# Altium footprint library PcbLib1.PcbLib: 29 footprints (part 1 of 2)
Each footprint in its own frame and in the unit in brackets; x right, y up, seen from the top. Pads: shape width x height; smd on the part's side, far side on the other; paste and mask are expansions set on the pad; w line width, h text height; cw(c..) or ccw(c..) is an arc to the next point about the centre after c.
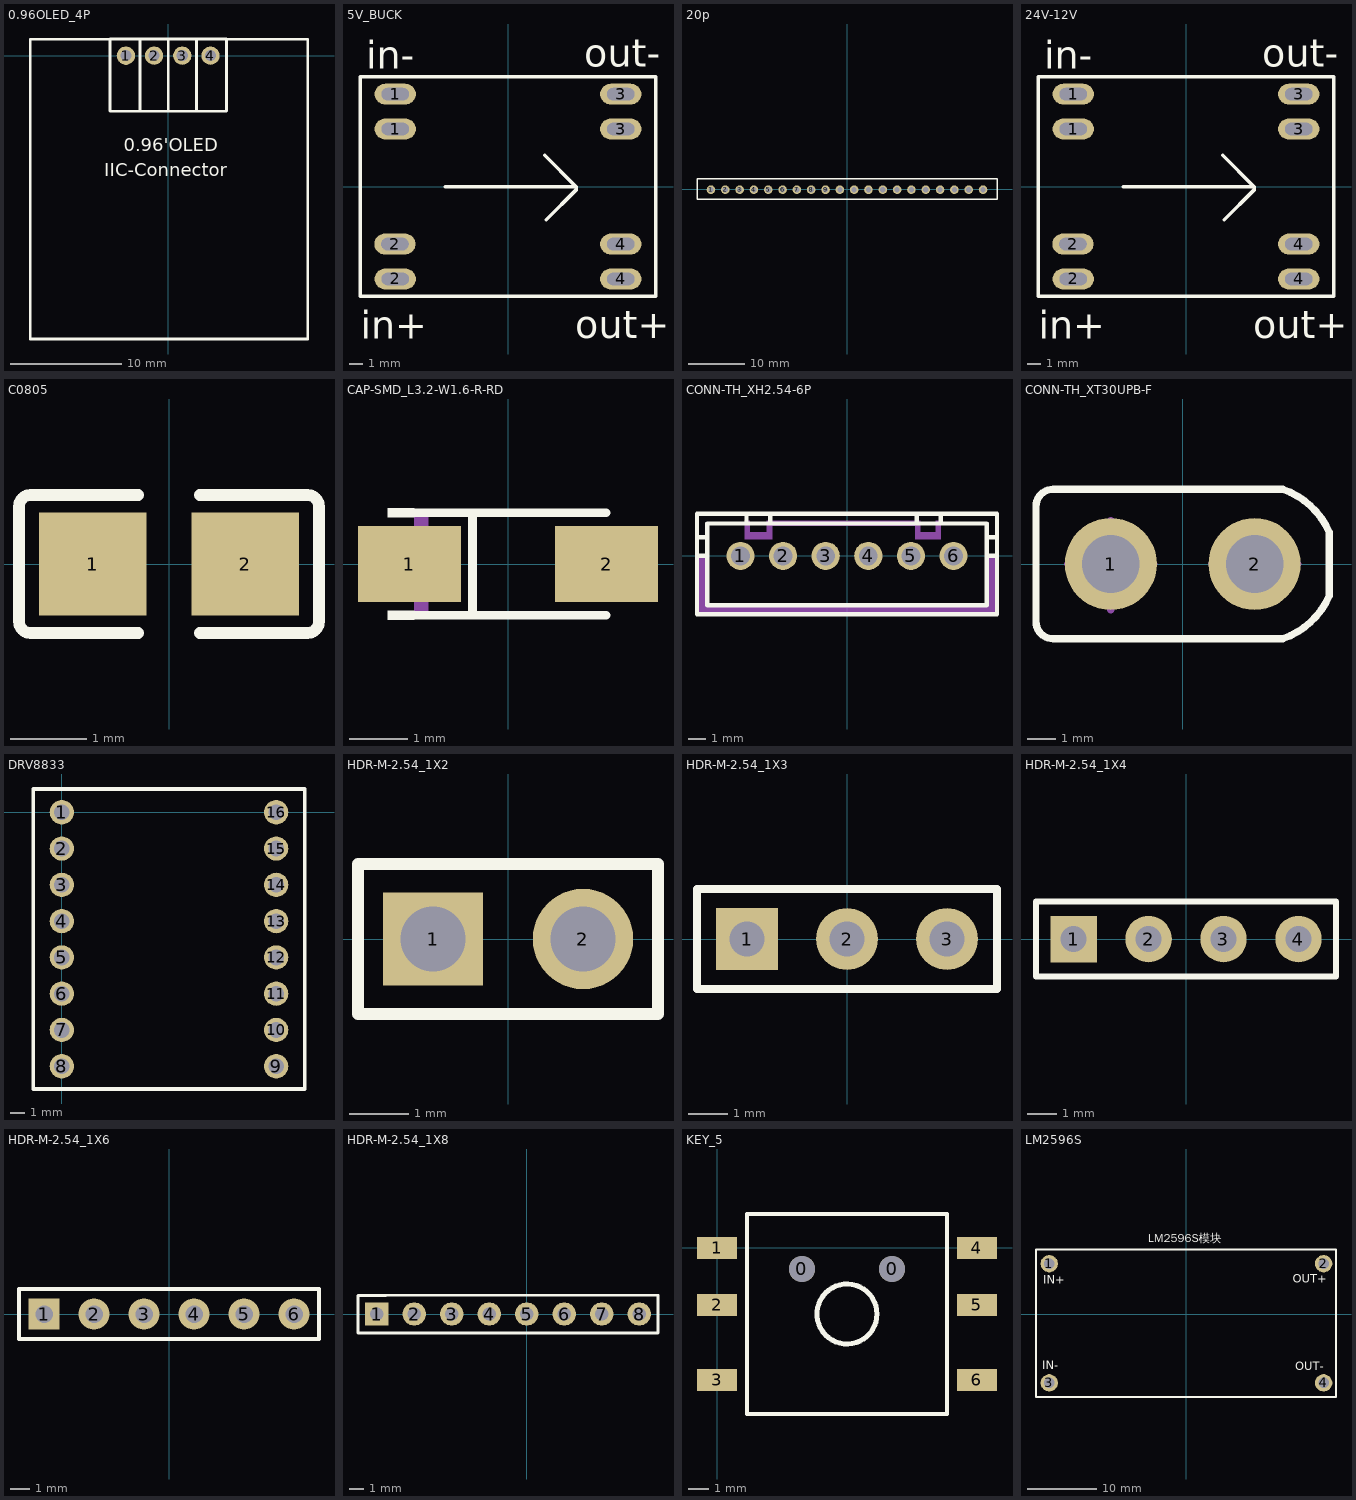
[diagram p0: the footprints below, top view; thin cyan lines are the x and y axes]

## 0.96OLED_4P [mm]
pads (4):
  round 1.65 hole 1 paste+0 mask+0.051: 1(-3.81,-0.001) 2(-1.27,0.002) 3(1.27,0.002) 4(3.81,0.002)
Top Overlay:
  lines w0.254: -5.252,-4.999 3.101,-5 5.247,-4.999 ; -5.252,-4.952 -5.252,1.501 5.246,1.501 ; -2.543,-4.952 -2.543,1.398 ; -0.003,-4.952 -0.003,1.501 ; 2.537,-4.952 2.537,1.398 ; 5.247,-4.952 5.247,1.503 ; -12.427,-25.527 12.573,-25.527 12.573,1.473 -12.427,1.473 -12.427,-25.527
  text "0.96'OLED" at -3.998,-8.6 h1.2
  text "IIC-Connector" at -5.756,-10.847 h1.2

## 5V_BUCK [mm]
pads (8):
  oval 3x1.524 hole 0.9 slot 2 at 0 deg paste+0 mask+0.051: 1(-8.21,4.19) 1(-8.21,6.73) 2(-8.232,-4.19) 2(-8.21,-6.73) 3(8.21,6.73) 3(8.21,4.19) 4(8.21,-6.73) 4(8.21,-4.19)
Top Overlay:
  lines w0.254: -4.572,0 4.953,0 ; 2.794,-2.413 4.953,-0.254 4.953,0 ; 4.953,0 2.667,2.286 4.953,0 ; -10.75,-8 10.75,-8 10.75,8 -10.75,8 -10.75,-8
  text "out-" at 5.537,8.712 h2.03
  text "out+" at 4.887,-11.037 h2.03
  text "in+" at -10.719,-11.1 h2.03
  text "in-" at -10.338,8.585 h2.03

## 20p [mil]
pads (20):
  round 60 hole 36 paste+0 mask+4: 1(-950,-5) 2(-850,-5) 3(-750,-5) 4(-650,-5) 5(-550,-5) 6(-450,-5) 7(-350,-5) 8(-250,-5) 9(-150,-5) 10(-50,-5) 11(50,-5) 12(150,-5) 13(250,-5) 14(350,-5) 15(450,-5) 16(550,-5) 17(650,-5) 18(750,-5) 19(850,-5) 20(950,-5)
Top Overlay:
  lines w10: -1047.5,-70 -1047.5,70 1047.5,70 1047.5,-70 -1047.5,-70

## 24V-12V [mm]
pads (8):
  oval 3x1.524 hole 0.9 slot 2 at 0 deg paste+0 mask+0.051: 1(-8.21,4.19) 1(-8.21,6.73) 2(-8.232,-4.19) 2(-8.21,-6.73) 3(8.21,6.73) 3(8.21,4.19) 4(8.21,-6.73) 4(8.21,-4.19)
Top Overlay:
  lines w0.254: -4.572,0 4.953,0 ; 2.794,-2.413 4.953,-0.254 4.953,0 ; 4.953,0 2.667,2.286 4.953,0 ; -10.75,-8 10.75,-8 10.75,8 -10.75,8 -10.75,-8
  text "out-" at 5.537,8.712 h2.03
  text "out+" at 4.887,-11.037 h2.03
  text "in+" at -10.719,-11.1 h2.03
  text "in-" at -10.338,8.585 h2.03

## C0805 [mm]
pads (2):
  rect 1.41x1.35 smd paste-100 mask+0.051: 1(-1,0) 2(1,0)
Top Overlay:
  lines w0.152: -0.401,-0.904 -1.811,-0.904 cw(c-1.811,-0.751) -1.964,-0.751 -1.964,0.751 cw(c-1.811,0.751) -1.811,0.904 -0.401,0.904 ; 0.401,-0.904 1.811,-0.904 ccw(c1.811,-0.751) 1.964,-0.751 1.964,0.751 ccw(c1.811,0.751) 1.811,0.904 0.401,0.904
Top Paste:
  region: -1.675,-0.62 -1.675,0.66 -1.625,0.71 -0.475,0.71 -0.425,0.66 -0.42,0.25 -0.87,0.25 -0.87,-0.2 -0.43,-0.2 -0.425,-0.62 -0.475,-0.67 -1.625,-0.67
  region: 0.475,-0.62 0.475,-0.2 0.92,-0.2 0.92,0.25 0.48,0.25 0.475,0.66 0.525,0.71 1.675,0.71 1.725,0.66 1.725,-0.62 1.675,-0.67 0.525,-0.67

## CAP-SMD_L3.2-W1.6-R-RD [mil]
pads (2):
  rect 69.19x51.02 smd paste+0 mask+2: 1(-66.39,0) 2(66.39,0)
Top Overlay:
  region: -62.99,37.5 -62.99,31.51 -80.99,31.51 -80.99,37.5
  region: -62.99,-37.5 -62.99,-31.51 -80.99,-31.51 -80.99,-37.5
  lines w6: -65.99,-34.5 65.99,-34.5 ; -65.99,34.5 65.99,34.5 ; -23.79,-34.5 -23.79,34.5
Mechanical 15:
  region: -62.99,-31.5 -62.99,-15.75 -53.54,-15.75 -53.54,-31.5
  region: -62.99,31.5 -62.99,15.75 -53.54,15.75 -53.54,31.5
  region: -51.18,15.75 -51.18,-15.75 -46.46,-15.75 -46.46,15.75
  region: -58.27,2.36 -58.27,-2.36 -39.37,-2.36 -39.37,2.36
  region: 58.27,2.36 58.27,-2.36 39.37,-2.36 39.37,2.36

## CONN-TH_XH2.54-6P [mm]
pads (6):
  round 1.65 hole 1.1 paste+0 mask+0.05: 1(-6.25,0) 2(-3.75,0) 3(-1.25,0) 4(1.25,0) 5(3.75,0) 6(6.25,0)
Top Overlay:
  lines w0.254: -8.8,0 -8.2,0 ; -8.8,1.1 -8.2,1.1 ; -5.9,1.9 -5.9,2.475 ; -4.5,1.9 -4.5,2.475 ; 4.1,1.9 4.1,2.475 ; 5.5,1.9 5.5,2.475 ; 8.2,0 8.8,0 ; 8.2,1.1 8.8,1.1 ; -8.8,-3.425 8.8,-3.425 8.8,2.475 -8.8,2.475 -8.8,-3.425 ; -8.2,-2.9 -8.2,1.9 8.2,1.9 8.2,-2.9 -8.2,-2.9
Mechanical 15:
  region: 8.2,0 8.8,0 8.8,-3.325 8.7,-3.425 -8.7,-3.425 -8.7,-0.1 -8.8,0 -8.2,0 -8.2,-2.9 8.1,-2.8 8.2,-2.7
  region: -6,2.075 -5.7,2.075 -5.7,1.375 -4.7,1.375 -4.7,2.075 4.3,2.075 4.3,1.375 5.2,1.375 5.2,2.075 5.5,2.075 5.5,0.975 4,0.975 4,1.775 -4.4,1.775 -4.4,0.975 -6,0.975 -6,1.075

## CONN-TH_XT30UPB-F [mm]
pads (2):
  round 3.2 hole 2 paste+0 mask+0.051: 1(-2.5,0) 2(2.5,0)
Top Overlay:
  lines w0.254: -5.1,-2 ccw(c-4.5,-2) -4.5,-2.6 3.475,-2.6 ccw(c2.58,0) 5.1,-1.1 5.1,1.1 ccw(c2.58,0) 3.475,2.6 -4.5,2.6 ccw(c-4.5,2) -5.1,2 -5.1,-2
Mechanical 15:
  lines w0.254: -2.5,-1.6 -2.5,1.5 ; 1,0 4,0 ; -4,0 -1,0 -4,0

## DRV8833 [mm]
pads (16):
  round 1.7 hole 1.1 paste+0 mask+0.102: 1(0,0) 2(0,-2.54) 3(0,-5.08) 4(0,-7.62) 5(0,-10.16) 6(0,-12.7) 7(0,-15.24) 8(0,-17.78) 9(15.001,-17.78) 10(15.001,-15.24) 11(15.001,-12.7) 12(15.001,-10.16) 13(15.001,-7.62) 14(15.001,-5.08) 15(15.001,-2.54) 16(15.001,0)
Top Overlay:
  lines w0.254: -1.999,-19.372 17.001,-19.372 17.001,1.628 -1.999,1.628 -1.999,-19.372

## HDR-M-2.54_1X2 [mm]
pads (2):
  rect 1.7x1.575 hole 1.1 paste+0 mask+0.051: 1(-1.27,0)
  round 1.7 hole 1.1 paste+0 mask+0.051: 2(1.27,0)
Top Overlay:
  lines w0.203: -2.54,-1.27 2.54,-1.27 2.54,1.27 -0.635,1.27 -2.54,1.27 -2.54,-1.27

## HDR-M-2.54_1X3 [mil]
pads (3):
  rect 62x62 hole 35 paste+0 mask+2: 1(-100,0)
  round 62 hole 35 paste+0 mask+2: 2(0,0) 3(100,0)
Top Overlay:
  lines w7.99: -75,50 150,50
  lines w8: -75,50 -150,50 -150,-50 150,-50 150,50

## HDR-M-2.54_1X4 [mil]
pads (4):
  rect 62x62 hole 35 paste+0 mask+2: 1(-150,0)
  round 62 hole 35 paste+0 mask+2: 2(-50,0) 3(50,0) 4(150,0)
Top Overlay:
  lines w7.99: -125,50 200,50
  lines w8: -125,50 -200,50 -200,-50 200,-50 200,50

## HDR-M-2.54_1X6 [mil]
pads (6):
  rect 62x62 hole 35 paste+0 mask+2: 1(-250,0)
  round 62 hole 35 paste+0 mask+2: 2(-150,0) 3(-50,0) 4(50,0) 5(150,0) 6(250,0)
Top Overlay:
  lines w7.99: -225,50 300,50
  lines w8: -225,50 -300,50 -300,-50 300,-50 300,50

## HDR-M-2.54_1X8 [mil]
pads (8):
  rect 62x62 hole 35 paste+0 mask+2: 1(-400,0)
  round 62 hole 35 paste+0 mask+2: 2(-300,0) 3(-200,0) 4(-100,0) 5(0,0) 6(100,0) 7(200,0) 8(300,0)
Top Overlay:
  lines w7.99: -375,50 350,50
  lines w8: -375,50 -450,50 -450,-50 350,-50 350,50

## KEY_5 [mm] "五向导航按键"
height 2.38
pads (8):
  round 1.3 hole 1.3: 0(4.25,-1.05) 0(8.75,-1.05)
  rect 2x1.1 smd: 1(0,0) 2(0,-2.85) 3(0,-6.6) 4(13,0) 5(13,-2.85) 6(13,-6.6)
Top Overlay:
  circle w0.254: c6.5,-3.3 r1.5
  lines w0.203: 11.5,-8.3 1.5,-8.3 1.5,1.7 11.5,1.7 ; 11.5,-8.3 11.5,1.7 ; 11.5,-8.3 11.5,1.7

## LM2596S [mil]
pads (4):
  round 98.42 hole 59.06 paste+0 mask+2: 1(-775,287.5) 2(780,287.5) 3(-775,-387.5) 4(780,-387.5)
Top Overlay:
  lines w10: -850,362.5 -850,-467.5 850,-467.5 ; -850,367.5 850,367.5 850,-462.5
  text "OUT-" at 620,-332.5 h80
  text "OUT+" at 605,162.5 h80
  text "IN-" at -815,-327.5 h80
  text "IN+" at -810,157.5 h80
  text "LM2596S模块" at -215,392.5 h80